# Altium footprint library Connector, S06B-PASK-2.PcbLib: 1 footprints
Each footprint in its own frame and in the unit in brackets; x right, y up, seen from the top. Pads: shape width x height; smd on the part's side, far side on the other; paste and mask are expansions set on the pad; w line width, h text height; cw(c..) or ccw(c..) is an arc to the next point about the centre after c.
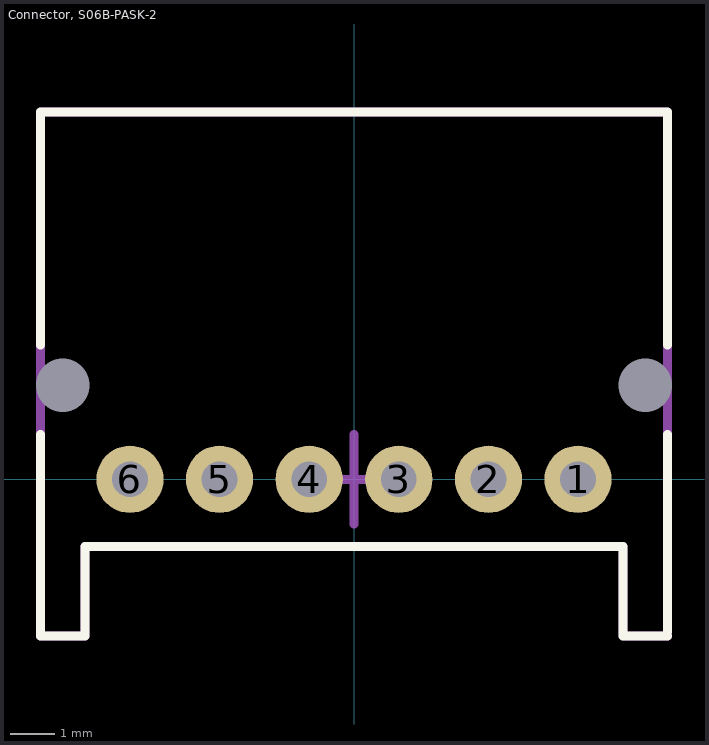
[diagram p0: the footprint, top view; thin cyan lines are the x and y axes]

## Connector, S06B-PASK-2 [mm] "Connector, S06B-PASK-2"
height 6.5
pads (8):
  round 1.5 hole 0.8 mask+0.05: 1(5,0) 2(3,0) 3(1,0) 4(-1,0) 5(-3,0) 6(-5,0)
  round 0 hole 1.2 unplated mask+0.05: 8-VIN(-6.5,2.1) 8-VIN(6.5,2.1)
Top Overlay:
  lines w0.2: -7,1 -7,-3.5 -6,-3.5 -6,-1.5 6,-1.5 6,-3.5 7,-3.5 ; -7,3 -7,8.2 7,8.2 7,3 ; 7,-3.4 7,1
Top Assembly:
  lines w0.2: -7,-3.5 -7,8.2 7,8.2 7,-3.5 6,-3.5 6,-1.5 -6,-1.5 -6,-3.5 -7,-3.5
Top Designator:
  text ".Designator" at -5,5.875 h2
Top Component Center:
  lines w0.2: -1,0 1,0 ; 0,-1 0,1
3D body "JST - PA -1x6 - Through Hole, Side Entry - S06B-PASK-2.step": height 6.5, standoff -3.4, extent -7,-3.494 7,8.206